# Altium schematic symbol library SCH - POWER - LINEAR VREG - AD MAX25301A.SCHLIB: 1 symbol
Pins are listed as number, name and electrical type; pins without a type are passive.

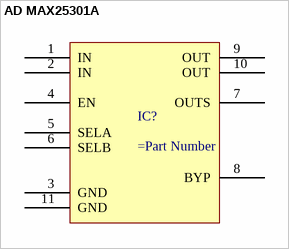
[diagram p0: symbol AD MAX25301A]

## AD MAX25301A
designator IC?
pins: 1 IN, 2 IN, 3 GND, 4 EN, 5 SELA, 6 SELB, 7 OUTS, 8 BYP, 9 OUT, 10 OUT, 11 GND